# Altium footprint library TSM_102.PcbLib: 1 footprints
Each footprint in its own frame and in the unit in brackets; x right, y up, seen from the top. Pads: shape width x height; smd on the part's side, far side on the other; paste and mask are expansions set on the pad; w line width, h text height; cw(c..) or ccw(c..) is an arc to the next point about the centre after c.
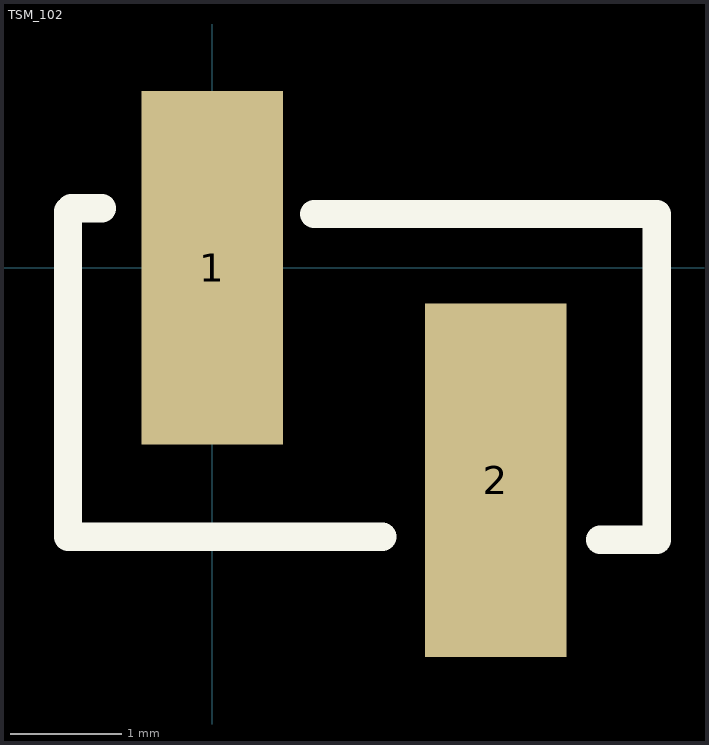
[diagram p0: the footprint, top view; thin cyan lines are the x and y axes]

## TSM_102 [mm]
pads (2):
  rect 1.27x3.17 smd: 1(0,0) 2(2.54,-1.905)
Top Overlay:
  lines w0.254: -0.991,0.533 -1.27,0.533 -1.295,0.508 -1.295,-2.413 1.524,-2.413 ; 0.914,0.483 3.988,0.483 3.988,-2.438 3.48,-2.438
  text "." at -1.372,1.295 h1.78